# Altium integrated library ADS1115.IntLib: 1 symbol
Pins are listed as number, name and electrical type; pins without a type are passive.

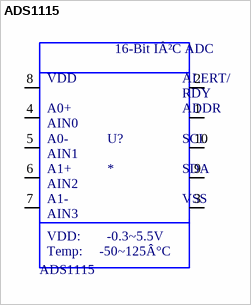
[diagram p0: symbol ADS1115]

## ADS1115
designator U?
ADS1115 - 16 Bit 3.3k Samples per Second Analog to Digital Converter (ADC) Evaluation Board; MF: Texas Instruments; Value: *; Price: None; Availability: Not in stock; SnapEDA_Link: https://www.snapeda.com/parts/ADS1115/Texas%20Instruments/view-part/6620382/?ref=snap; Check_prices: https://www.snapeda.com/parts/ADS1115/Texas%20Instruments/view-part/6620382/?ref=eda; Package: TFSOP-10 Texas Instruments; MP: ADS1115
footprint MSOP10
pins: 1 ADDR (io), 2 ALERT/RDY (io), 3 VSS (io), 4 AIN0 (io), 5 AIN1 (io), 6 AIN2 (io), 7 AIN3 (io), 8 VDD (io), 9 SDA (io), 10 SCL (io)
text: 16-Bit IÂ²C ADC; ALERT/; RDY; A0+; A0-; A1+; A1-; VDD:; -0.3~5.5V; Temp:; -50~125Â°C